# EAGLE library part MB3731 (library A-14732-40023)
Fujitsu MB3731 audio amplifier in SIP12 package
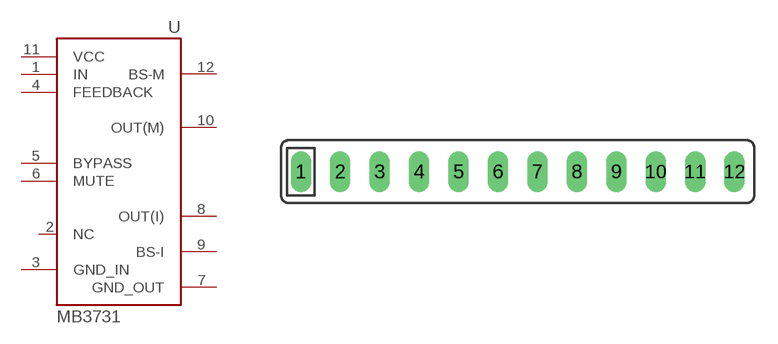
[diagram p8: symbol with the pads of SIP12; footprint SIP12]

Designator prefix U

## MB3731  [SIP12]
1  IN  pas
2  NC  nc
3  GND_IN  pwr
4  FEEDBACK  pas
5  BYPASS  pas
6  MUTE  pas
7  GND_OUT  pas
8  OUT(I)  out
9  BS-I  pas
10  OUT(M)  pas
11  VCC  pwr
12  BS-M  out

## Footprint SIP12 (pad centres in mm)
Single in line package
drill 0.813 long: 1 -10.16,0; 2 -7.62,0; 3 -5.08,0; 4 -2.54,0; 5 0,0; 6 2.54,0; 7 5.08,0; 8 7.62,0; 9 10.16,0; 10 12.7,0; 11 15.24,0; 12 17.78,0